# Altium footprint library Inductors_SMD_IPC.PcbLib: 12 footprints
Each footprint in its own frame and in the unit in brackets; x right, y up, seen from the top. Pads: shape width x height; smd on the part's side, far side on the other; paste and mask are expansions set on the pad; w line width, h text height; cw(c..) or ccw(c..) is an arc to the next point about the centre after c.
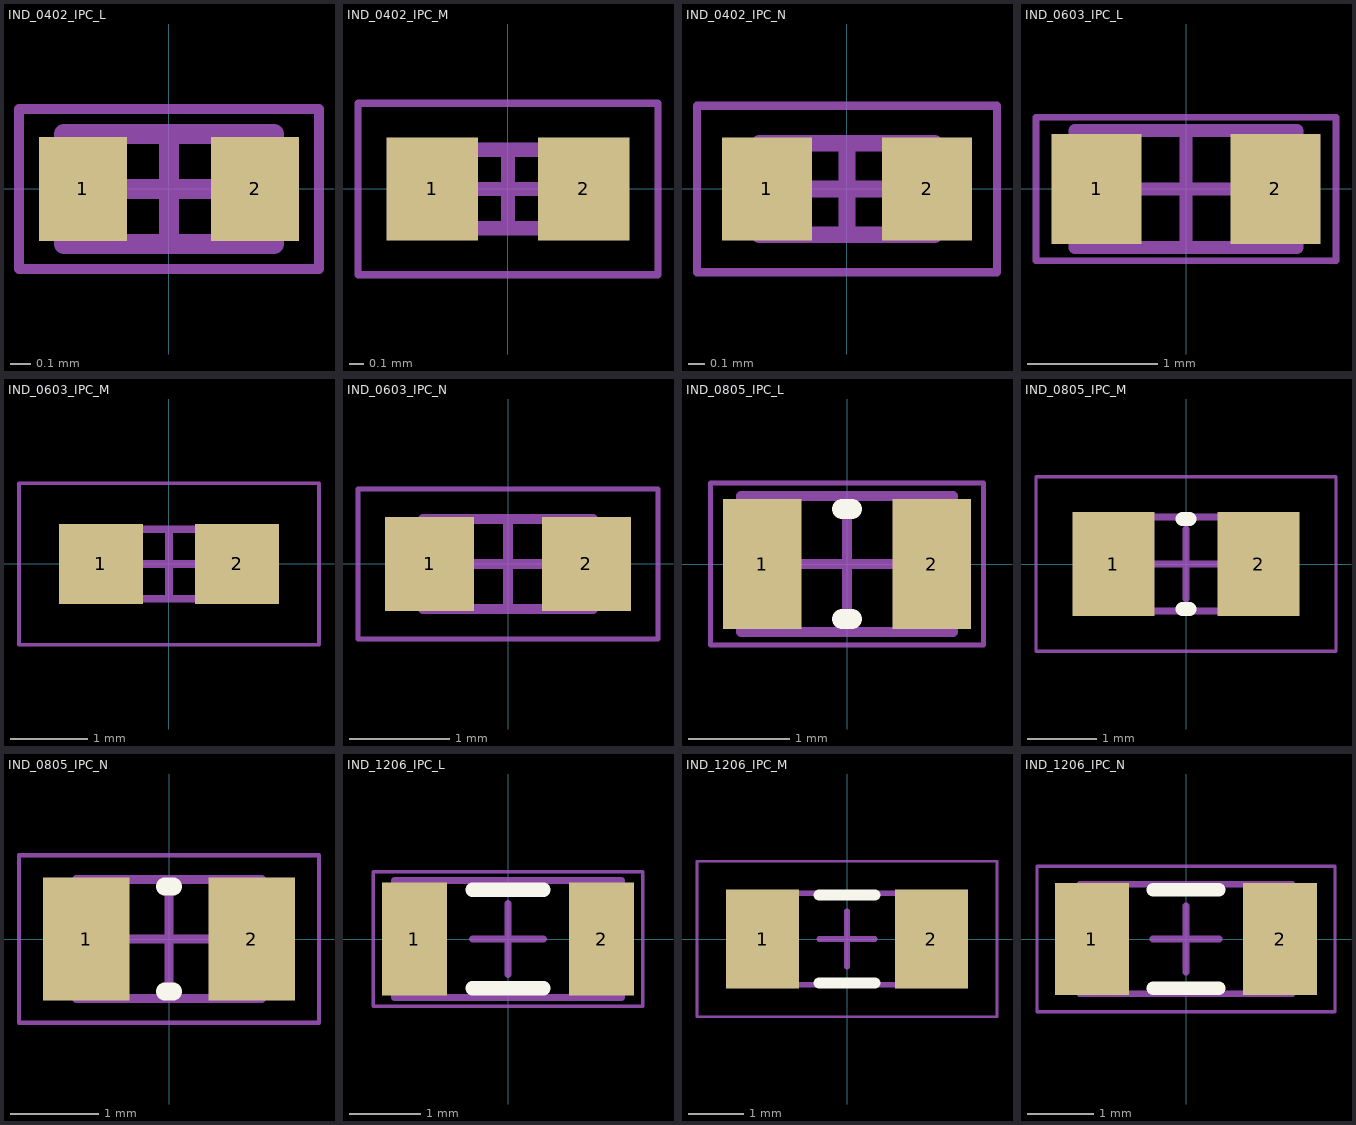
[diagram p0: the footprints below, top view; thin cyan lines are the x and y axes]

## IND_0402_IPC_L [mm] "Chip inductor 0402 (1.00x0.50x0.35mm) - IPC Least"
height 0.4
pads (2):
  rect 0.44x0.52 smd: 1(-0.43,0) 2(0.43,0)
Mechanical 13:
  lines w0.1: -0.525,-0.275 0.525,-0.275 0.525,0.275 -0.525,0.275 -0.525,-0.275
Mechanical 15:
  lines w0.05: -0.75,-0.4 0.75,-0.4 0.75,0.4 -0.75,0.4 -0.75,-0.4
  lines w0.1: -0.275,0 0.275,0 ; 0,-0.275 0,0.275
3D body "INDC1005X04L.step": height 0.4, standoff 0, extent -0.525,-0.275 0.525,0.275

## IND_0402_IPC_M [mm] "Chip inductor 0402 (1.00x0.50x0.35mm) - IPC Most"
height 0.4
pads (2):
  rect 0.64x0.72 smd: 1(-0.53,0) 2(0.53,0)
Mechanical 13:
  lines w0.1: -0.525,-0.275 0.525,-0.275 0.525,0.275 -0.525,0.275 -0.525,-0.275
Mechanical 15:
  lines w0.05: -1.05,-0.6 1.05,-0.6 1.05,0.6 -1.05,0.6 -1.05,-0.6
  lines w0.1: -0.275,0 0.275,0 ; 0,-0.275 0,0.275
3D body "INDC1005X04M.step": height 0.4, standoff 0, extent -0.525,-0.275 0.525,0.275

## IND_0402_IPC_N [mm] "Chip inductor 0402 (1.00x0.50x0.35mm) - IPC Nominal"
height 0.4
pads (2):
  rect 0.54x0.62 smd: 1(-0.48,0) 2(0.48,0)
Mechanical 13:
  lines w0.1: -0.525,-0.275 0.525,-0.275 0.525,0.275 -0.525,0.275 -0.525,-0.275
Mechanical 15:
  lines w0.05: -0.9,-0.5 0.9,-0.5 0.9,0.5 -0.9,0.5 -0.9,-0.5
  lines w0.1: -0.275,0 0.275,0 ; 0,-0.275 0,0.275
3D body "INDC1005X04N.step": height 0.4, standoff 0, extent -0.525,-0.275 0.525,0.275

## IND_0603_IPC_L [mm] "Chip inductor 0603 (1.60x0.80x0.45mm) - IPC Least"
height 0.55
pads (2):
  rect 0.69x0.84 smd: 1(-0.685,0) 2(0.685,0)
Mechanical 13:
  lines w0.1: -0.85,-0.45 0.85,-0.45 0.85,0.45 -0.85,0.45 -0.85,-0.45
Mechanical 15:
  lines w0.05: -1.15,-0.55 1.15,-0.55 1.15,0.55 -1.15,0.55 -1.15,-0.55
  lines w0.1: -0.45,0 0.45,0 ; 0,-0.45 0,0.45
3D body "INDC1608X06L.step": height 0.55, standoff 0, extent -0.85,-0.45 0.85,0.45

## IND_0603_IPC_M [mm] "Chip inductor 0603 (1.60x0.80x0.45mm) - IPC Most"
height 0.55
pads (2):
  rect 1.09x1.04 smd: 1(-0.885,0) 2(0.885,0)
Mechanical 13:
  lines w0.1: -0.85,-0.45 0.85,-0.45 0.85,0.45 -0.85,0.45 -0.85,-0.45
Mechanical 15:
  lines w0.05: -1.95,-1.05 1.95,-1.05 1.95,1.05 -1.95,1.05 -1.95,-1.05
  lines w0.1: -0.45,0 0.45,0 ; 0,-0.45 0,0.45
3D body "INDC1608X06M.step": height 0.55, standoff 0, extent -0.85,-0.45 0.85,0.45

## IND_0603_IPC_N [mm] "Chip inductor 0603 (1.60x0.80x0.45mm) - IPC Nominal"
height 0.55
pads (2):
  rect 0.89x0.94 smd: 1(-0.785,0) 2(0.785,0)
Mechanical 13:
  lines w0.1: -0.85,-0.45 0.85,-0.45 0.85,0.45 -0.85,0.45 -0.85,-0.45
Mechanical 15:
  lines w0.05: -1.5,-0.75 1.5,-0.75 1.5,0.75 -1.5,0.75 -1.5,-0.75
  lines w0.1: -0.45,0 0.45,0 ; 0,-0.45 0,0.45
3D body "INDC1608X06N.step": height 0.55, standoff 0, extent -0.85,-0.45 0.85,0.45

## IND_0805_IPC_L [mm] "Chip inductor 0805 (2.00x1.25x0.50mm) - IPC Least"
height 0.6
pads (2):
  rect 0.78x1.29 smd: 1(-0.84,0) 2(0.84,0)
Top Overlay:
  lines w0.2: -0.05,-0.545 0.05,-0.545 ; -0.05,0.545 0.05,0.545
Mechanical 13:
  lines w0.1: -1.05,-0.675 1.05,-0.675 1.05,0.675 -1.05,0.675 -1.05,-0.675
Mechanical 15:
  lines w0.05: -1.35,-0.8 1.35,-0.8 1.35,0.8 -1.35,0.8 -1.35,-0.8
  lines w0.1: -0.5,0 0.5,0 ; 0,-0.5 0,0.5
3D body "INDC2012X06L.step": height 0.6, standoff 0, extent -1.05,-0.675 1.05,0.675

## IND_0805_IPC_M [mm] "Chip inductor 0805 (2.00x1.25x0.50mm) - IPC Most"
height 0.6
pads (2):
  rect 1.18x1.49 smd: 1(-1.04,0) 2(1.04,0)
Top Overlay:
  lines w0.2: -0.05,-0.645 0.05,-0.645 ; -0.05,0.645 0.05,0.645
Mechanical 13:
  lines w0.1: -1.05,-0.675 1.05,-0.675 1.05,0.675 -1.05,0.675 -1.05,-0.675
Mechanical 15:
  lines w0.05: -2.15,-1.25 2.15,-1.25 2.15,1.25 -2.15,1.25 -2.15,-1.25
  lines w0.1: -0.5,0 0.5,0 ; 0,-0.5 0,0.5
3D body "INDC2012X06M.step": height 0.6, standoff 0, extent -1.05,-0.675 1.05,0.675

## IND_0805_IPC_N [mm] "Chip inductor 0805 (2.00x1.25x0.50mm) - IPC Nominal"
height 0.6
pads (2):
  rect 0.98x1.39 smd: 1(-0.94,0) 2(0.94,0)
Top Overlay:
  lines w0.2: -0.05,-0.595 0.05,-0.595 ; -0.05,0.595 0.05,0.595
Mechanical 13:
  lines w0.1: -1.05,-0.675 1.05,-0.675 1.05,0.675 -1.05,0.675 -1.05,-0.675
Mechanical 15:
  lines w0.05: -1.7,-0.95 1.7,-0.95 1.7,0.95 -1.7,0.95 -1.7,-0.95
  lines w0.1: -0.5,0 0.5,0 ; 0,-0.5 0,0.5
3D body "INDC2012X06N.step": height 0.6, standoff 0, extent -1.05,-0.675 1.05,0.675

## IND_1206_IPC_L [mm] "Chip inductor 1206 (3.10x1.55x0.55mm) - IPC Least"
height 0.65
pads (2):
  rect 0.92x1.59 smd: 1(-1.32,0) 2(1.32,0)
Top Overlay:
  lines w0.2: -0.5,-0.695 0.5,-0.695 ; -0.5,0.695 0.5,0.695
Mechanical 13:
  lines w0.1: -1.6,-0.825 1.6,-0.825 1.6,0.825 -1.6,0.825 -1.6,-0.825
Mechanical 15:
  lines w0.05: -1.9,-0.95 1.9,-0.95 1.9,0.95 -1.9,0.95 -1.9,-0.95
  lines w0.1: -0.5,0 0.5,0 ; 0,-0.5 0,0.5
3D body "INDC3115X06L.step": height 0.65, standoff 0, extent -1.6,-0.825 1.6,0.825

## IND_1206_IPC_M [mm] "Chip inductor 1206 (3.10x1.55x0.55mm) - IPC Most"
height 0.65
pads (2):
  rect 1.32x1.79 smd: 1(-1.52,0) 2(1.52,0)
Top Overlay:
  lines w0.2: -0.5,-0.795 0.5,-0.795 ; -0.5,0.795 0.5,0.795
Mechanical 13:
  lines w0.1: -1.6,-0.825 1.6,-0.825 1.6,0.825 -1.6,0.825 -1.6,-0.825
Mechanical 15:
  lines w0.05: -2.7,-1.4 2.7,-1.4 2.7,1.4 -2.7,1.4 -2.7,-1.4
  lines w0.1: -0.5,0 0.5,0 ; 0,-0.5 0,0.5
3D body "INDC3115X06M.step": height 0.65, standoff 0, extent -1.6,-0.825 1.6,0.825

## IND_1206_IPC_N [mm] "Chip inductor 1206 (3.10x1.55x0.55mm) - IPC Nominal"
height 0.65
pads (2):
  rect 1.12x1.69 smd: 1(-1.42,0) 2(1.42,0)
Top Overlay:
  lines w0.2: -0.5,-0.745 0.5,-0.745 ; -0.5,0.745 0.5,0.745
Mechanical 13:
  lines w0.1: -1.6,-0.825 1.6,-0.825 1.6,0.825 -1.6,0.825 -1.6,-0.825
Mechanical 15:
  lines w0.05: -2.25,-1.1 2.25,-1.1 2.25,1.1 -2.25,1.1 -2.25,-1.1
  lines w0.1: -0.5,0 0.5,0 ; 0,-0.5 0,0.5
3D body "INDC3115X06N.step": height 0.65, standoff 0, extent -1.6,-0.825 1.6,0.825